# Altium schematic symbol library AMT.SchLib: 1 symbol
Pins are listed as number, name and electrical type; pins without a type are passive.

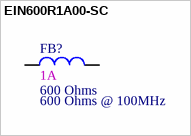
[diagram p0: symbol EIN600R1A00-SC]

## EIN600R1A00-SC
designator FB?, comment value 600 Ohms  2nd Auxiliary Field: 600 Ohms @ 100MHz  1st Auxiliary Field: 1A  (hidden comment: FERRITE BEAD 600 OHM 0603 1LN)
Manufacturer: Würth Elektronik; Internal Part Number: EIN600R1A00-SC; Manufacturer Part Number: 782633601; Vendor Part Number: 732-6703-1-ND; 3rd Auxiliary Field: ROHS3 Compliant; Component Height (mm): 1.00mm; 4th Auxiliary Field: AEC-Q200; Vendor Name: Digi-Key; Temp Co: -55°C ~ 125°C; Part Type: FERRITE BEAD 600 OHM 0603 1LN
footprint SMDL0603
pins: 1, 2
1 alternate drawing of the same symbol